# Altium footprint library TIDA-01576_ADS8686S_ISO_Interface.PcbLib: 67 footprints (part 3 of 5)
Each footprint in its own frame and in the unit in brackets; x right, y up, seen from the top. Pads: shape width x height; smd on the part's side, far side on the other; paste and mask are expansions set on the pad; w line width, h text height; cw(c..) or ccw(c..) is an arc to the next point about the centre after c.
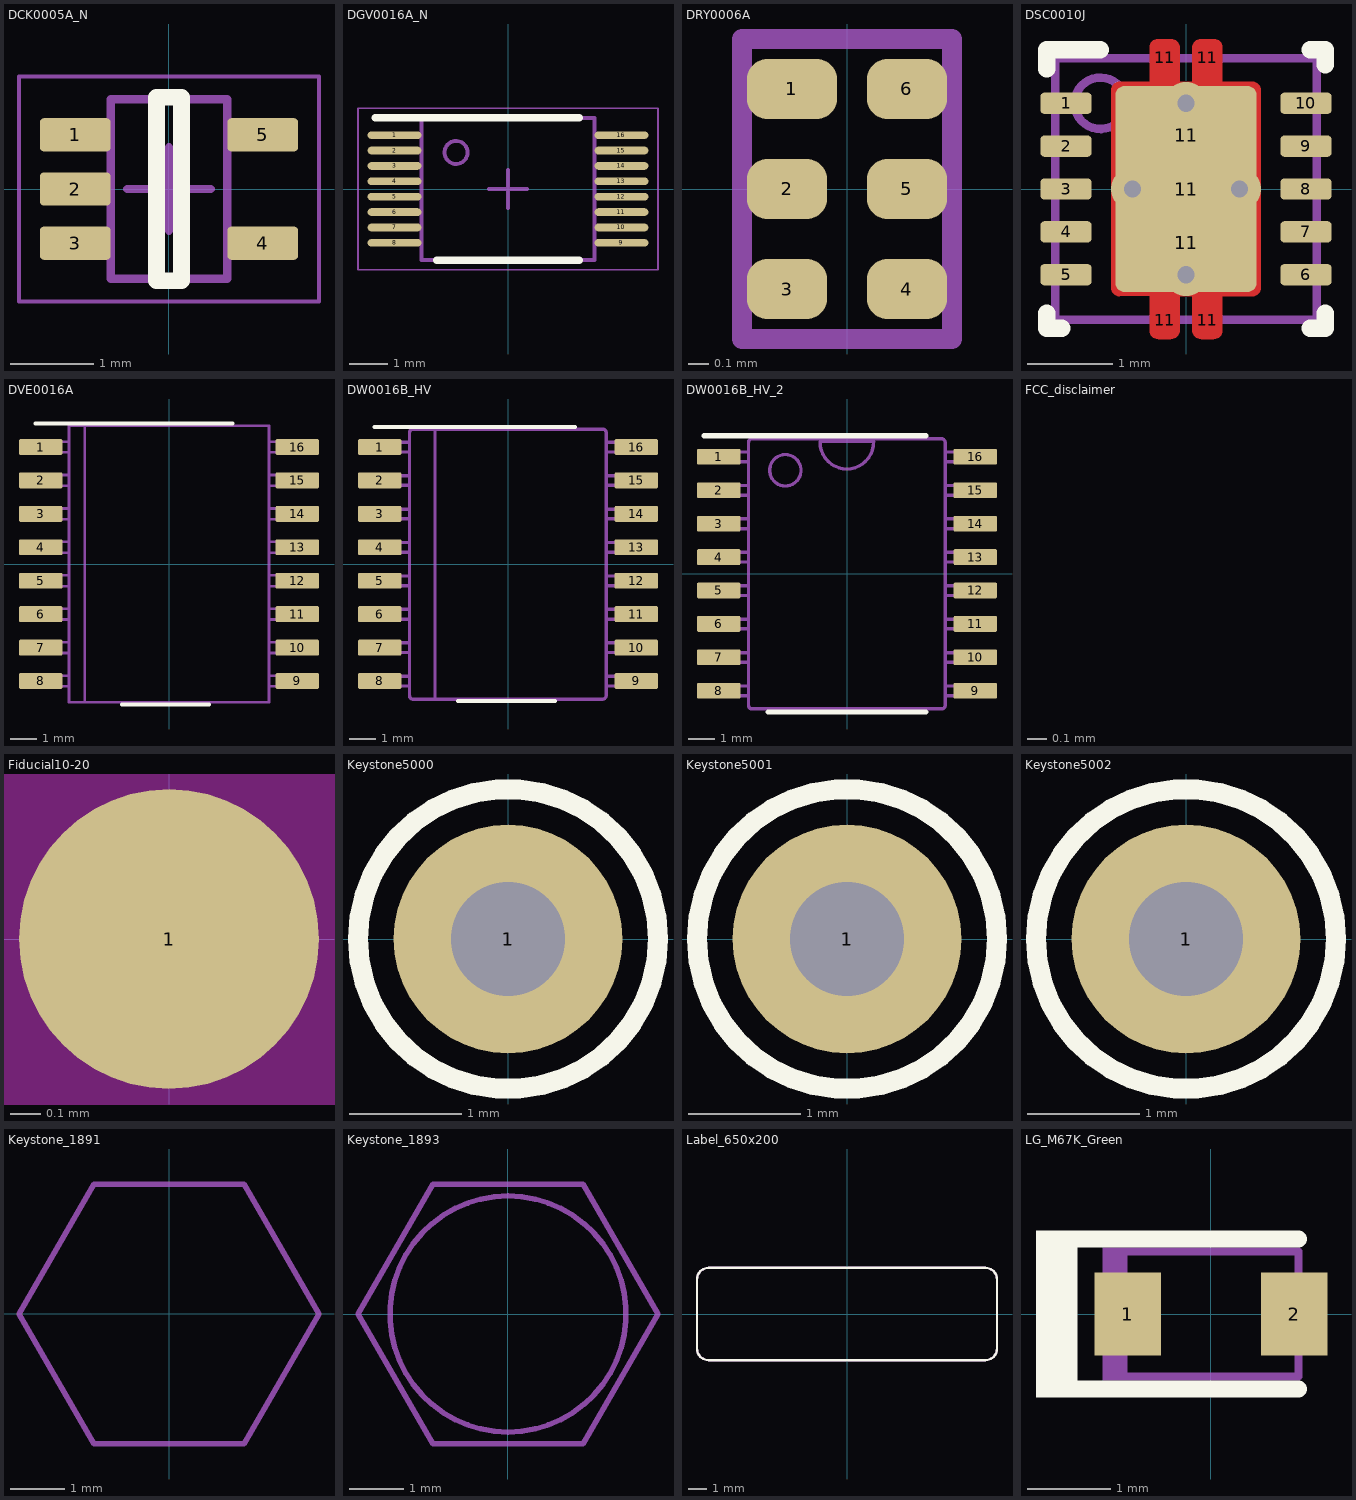
[diagram p2: the footprints below, top view; thin cyan lines are the x and y axes]

## DCK0005A_N [mm] "SOT353, 5-Leads, Body 2x1.3mm, Pitch 0.65mm, Lead Span 2.1mm, IPC Medium Density"
height 1.1
pads (5):
  rrect25% 0.85x0.4 smd: 1(-1.125,0.65) 2(-1.125,0) 3(-1.125,-0.65) 4(1.125,-0.65) 5(1.125,0.65)
Top Overlay:
  lines w0.2: -0.15,-1.1 -0.15,1.1 0.15,1.1 0.15,-1.1 -0.15,-1.1
Mechanical 5:
  lines w0.1: -0.7,-1.075 0.7,-1.075 0.7,1.075 -0.7,1.075 -0.7,-1.075
  lines w0.127: -0.865,0.762 -0.853,0.762 ; -0.711,-0.763 -0.853,-0.763 -0.865,-0.763 -0.959,-0.763 -1.143,-0.763 -1.143,-0.538 -0.959,-0.538 -0.865,-0.538 -0.853,-0.538 -0.711,-0.538 ; -0.711,-0.113 -0.853,-0.113 -0.865,-0.113 -0.959,-0.113 -1.143,-0.113 -1.143,0.112 -0.959,0.112 -0.865,0.112 -0.853,0.112 -0.711,0.112 ; -0.711,0.537 -0.853,0.537 -0.865,0.537 -0.959,0.537 -1.143,0.537 -1.143,0.762 -0.959,0.762 -0.711,0.762 ; 0.711,-0.763 0.847,-0.763 0.859,-0.763 0.953,-0.763 1.137,-0.763 1.137,-0.538 0.953,-0.538 0.859,-0.538 0.847,-0.538 0.711,-0.538 ; 0.711,0.537 0.847,0.537 0.859,0.537 0.953,0.537 1.137,0.537 1.137,0.762 0.953,0.762 0.859,0.762 0.847,0.762 0.711,0.762
  text ".Designator" at -0.254,0.914 h0.51
Mechanical 15:
  lines w0.05: -1.8,-1.35 1.8,-1.35 1.8,1.35 -1.8,1.35 -1.8,-1.35
  lines w0.1: -0.5,0 0.5,0 ; 0,-0.5 0,0.5
3D body "DCK0005A.stp": height 0.95, standoff 0, extent -1.14,-1 1.14,1

## DGV0016A_N [mm] "TSSOP, 16-Leads, Body 3.6x4.4mm, Pitch 0.4mm, IPC Medium Density"
height 1.2
pads (16):
  oval 1.4x0.2 smd: 1(-2.95,1.4) 2(-2.95,1) 3(-2.95,0.6) 4(-2.95,0.2) 5(-2.95,-0.2) 6(-2.95,-0.6) 7(-2.95,-1) 8(-2.95,-1.4) 9(2.95,-1.4) 10(2.95,-1) 11(2.95,-0.6) 12(2.95,-0.2) 13(2.95,0.2) 14(2.95,0.6) 15(2.95,1) 16(2.95,1.4)
Top Overlay:
  lines w0.2: -3.45,1.85 1.85,1.85 ; -1.85,-1.85 1.85,-1.85
Mechanical 5:
  circle w0.1: c-1.35,0.95 r0.3
  lines w0.1: -2.25,-1.85 -2.25,1.85 2.25,1.85 2.25,-1.85 -2.25,-1.85
  text ".Designator" at -1.8,-0.8 h1.02
Mechanical 15:
  lines w0.05: -3.9,-2.1 -3.9,2.1 3.9,2.1 3.9,-2.1 -3.9,-2.1
  lines w0.1: -0.5,0 0.5,0 ; 0,-0.5 0,0.5
3D body "DGV0016A.stp": height 1.2, standoff 0, extent -3.209,-1.8 3.209,1.8

## DRY0006A [mm] "USON-6"
height 0.6
pads (6):
  rrect67% 0.45x0.3 smd paste-0.05 mask-0.05: 1(-0.275,0.5)
  rrect67% 0.4x0.3 smd paste-0.05 mask-0.05: 2(-0.3,0) 3(-0.3,-0.5) 4(0.3,-0.5) 5(0.3,0) 6(0.3,0.5)
Mechanical 5:
  circle w0.05: c-0.325,0.5 r0.1
  lines w0.1: -0.525,-0.75 -0.525,0.75 0.525,0.75 0.525,-0.75 -0.525,-0.75
  text ".Designator" at -0.075,0.575 h0.3
3D body "DRY0006A.stp": height 0.58, standoff 0, extent -0.5,-0.725 0.5,0.725

## DSC0010J [mm] "SON, 10-Leads, Body 3x3mm, Pitch 0.5mm, Thermal Pad 2.4x1.65mm, TI Recommended"
height 0.8
pads (17):
  rrect40% 0.6x0.25 smd: 1(-1.4,1) 2(-1.4,0.5) 3(-1.4,0) 4(-1.4,-0.5) 5(-1.4,-1) 6(1.4,-1) 7(1.4,-0.5) 8(1.4,0) 9(1.4,0.5) 10(1.4,1)
  rrect50% 0.25x0.34 on Top Paste: 11(-0.25,-1.53) 11(-0.25,1.53) 11(0.25,-1.53) 11(0.25,1.53)
  rrect50% 1.5x1.06 on Top Paste: 11(0,-0.63) 11(0,0.63)
  rrect12% 1.65x2.4 smd paste-1 mask-2: 11(0,0)
via 0.625,0 diameter 0.5 hole 0.2
via -0.625,0 diameter 0.5 hole 0.2
via 0,1 diameter 0.5 hole 0.2
via 0,-1 diameter 0.5 hole 0.2
Top Layer:
  region: -0.775,-1.25 -0.425,-1.25 -0.425,-1.65 -0.425,-1.67 -0.41,-1.707 -0.382,-1.735 -0.345,-1.75 -0.325,-1.75 -0.175,-1.75 -0.155,-1.75 -0.118,-1.735 -0.09,-1.707 -0.075,-1.67 -0.075,-1.65 -0.075,-1.25 0.075,-1.25 0.075,-1.65 0.075,-1.67 0.09,-1.707 0.118,-1.735 0.155,-1.75 0.175,-1.75 0.325,-1.75 0.345,-1.75 0.382,-1.735 0.41,-1.707 0.425,-1.67 0.425,-1.65 0.425,-1.25 0.775,-1.25 0.795,-1.25 0.832,-1.235 0.86,-1.207 0.875,-1.17 0.875,-1.15 0.875,1.15 0.875,1.17 0.86,1.207 0.832,1.235 0.795,1.25 0.775,1.25 0.425,1.25 0.425,1.65 0.425,1.67 0.41,1.707 0.382,1.735 0.345,1.75 0.325,1.75 0.175,1.75 0.155,1.75 0.118,1.735 0.09,1.707 0.075,1.67 0.075,1.65 0.075,1.25 -0.075,1.25 -0.075,1.65 -0.075,1.67 -0.09,1.707 -0.118,1.735 -0.155,1.75 -0.175,1.75 -0.325,1.75 -0.345,1.75 -0.382,1.735 -0.41,1.707 -0.425,1.67 -0.425,1.65 -0.425,1.25 -0.775,1.25 -0.795,1.25 -0.832,1.235 -0.86,1.207 -0.875,1.17 -0.875,1.15 -0.875,-1.15 -0.875,-1.17 -0.86,-1.207 -0.832,-1.235 -0.795,-1.25
Top Overlay:
  lines w0.2: -1.625,-1.45 -1.625,-1.625 -1.45,-1.625 ; -1.625,1.4 -1.625,1.625 -1,1.625 ; 1.45,-1.625 1.625,-1.625 1.625,-1.45 ; 1.45,1.625 1.625,1.625 1.625,1.45
Mechanical 5:
  circle w0.1: c-1,1 r0.3
  lines w0.1: -1.525,-1.525 1.525,-1.525 1.525,1.525 -1.525,1.525 -1.525,-1.525
  text ".Designator" at -3.936,-0.681 h0.71
3D body "DSC0010J.stp": height 0.81, standoff 0.01, extent -1.5,-1.5 1.5,1.5

## DVE0016A [mm] "SO-MOD-16"
height 2.65
pads (16):
  rrect17% 1.65x0.6 smd: 1(-4.875,4.445) 2(-4.875,3.175) 3(-4.875,1.905) 4(-4.875,0.635) 5(-4.875,-0.635) 6(-4.875,-1.905) 7(-4.875,-3.175) 8(-4.875,-4.445) 9(4.875,-4.445) 10(4.875,-3.175) 11(4.875,-1.905) 12(4.875,-0.635) 13(4.875,0.635) 14(4.875,1.905) 15(4.875,3.175) 16(4.875,4.445)
Top Overlay:
  lines w0.152: -5.08,5.334 2.413,5.334 ; -1.778,-5.334 1.524,-5.334
Mechanical 5:
  lines w0.1: -3.8,-4.65 -5.3,-4.65 -5.3,-4.24 -3.8,-4.24 ; -3.8,-3.38 -5.3,-3.38 -5.3,-2.97 -3.8,-2.97 ; -3.8,-2.11 -5.3,-2.11 -5.3,-1.7 -3.8,-1.7 ; -3.8,-0.84 -5.3,-0.84 -5.3,-0.43 -3.8,-0.43 ; -3.8,0.43 -5.3,0.43 -5.3,0.84 -3.8,0.84 ; -3.8,1.7 -5.3,1.7 -5.3,2.11 -3.8,2.11 ; -3.8,2.97 -5.3,2.97 -5.3,3.38 -3.8,3.38 ; -3.8,4.24 -5.3,4.24 -5.3,4.65 -3.8,4.65 ; -3.2,-5.25 -3.2,5.25 ; 3.8,-4.65 5.3,-4.65 5.3,-4.24 3.8,-4.24 ; 3.8,-3.38 5.3,-3.38 5.3,-2.97 3.8,-2.97 ; 3.8,-2.11 5.3,-2.11 5.3,-1.7 3.8,-1.7 ; 3.8,-0.84 5.3,-0.84 5.3,-0.43 3.8,-0.43 ; 3.8,0.43 5.3,0.43 5.3,0.84 3.8,0.84 ; 3.8,1.7 5.3,1.7 5.3,2.11 3.8,2.11 ; 3.8,2.97 5.3,2.97 5.3,3.38 3.8,3.38 ; 3.8,4.24 5.3,4.24 5.3,4.65 3.8,4.65 ; -3.8,-5.25 3.8,-5.25 3.8,5.25 -3.8,5.25 -3.8,-5.25
  text ".Designator" at -0.83,5.231 h1.02
3D body "DVE0016A.stp": height 2.59, standoff 0, extent -5.167,-5.15 5.168,5.15

## DW0016B_HV [mm] "SOIC-16, HV/isolation option"
height 2.65
pads (16):
  rrect17% 1.65x0.6 smd: 1(-4.875,4.445) 2(-4.875,3.175) 3(-4.875,1.905) 4(-4.875,0.635) 5(-4.875,-0.635) 6(-4.875,-1.905) 7(-4.875,-3.175) 8(-4.875,-4.445) 9(4.875,-4.445) 10(4.875,-3.175) 11(4.875,-1.905) 12(4.875,-0.635) 13(4.875,0.635) 14(4.875,1.905) 15(4.875,3.175) 16(4.875,4.445)
Top Overlay:
  lines w0.152: -5.08,5.207 2.54,5.207 ; -1.905,-5.207 1.778,-5.207
Mechanical 5:
  lines w0.1: -2.775,-5.135 -2.775,5.127
  lines w0.127: -3.74,-4.633 -5.15,-4.633 -5.15,-4.265 -3.74,-4.265 ; -3.74,-3.363 -5.15,-3.363 -5.15,-2.995 -3.74,-2.995 ; -3.74,-2.093 -5.15,-2.093 -5.15,-1.725 -3.74,-1.725 ; -3.74,-0.823 -5.15,-0.823 -5.15,-0.455 -3.74,-0.455 ; -3.74,0.447 -5.15,0.447 -5.15,0.815 -3.74,0.815 ; -3.74,1.717 -5.15,1.717 -5.15,2.085 -3.74,2.085 ; -3.74,2.987 -5.15,2.987 -5.15,3.355 -3.74,3.355 ; -3.74,4.257 -5.15,4.257 -5.15,4.625 -3.74,4.625 ; 3.74,-4.633 5.15,-4.633 5.15,-4.265 3.74,-4.265 ; 3.74,-3.363 5.15,-3.363 5.15,-2.995 3.74,-2.995 ; 3.74,-2.093 5.15,-2.093 5.15,-1.725 3.74,-1.725 ; 3.74,-0.823 5.15,-0.823 5.15,-0.455 3.74,-0.455 ; 3.74,0.447 5.15,0.447 5.15,0.815 3.74,0.815 ; 3.74,1.717 5.15,1.717 5.15,2.085 3.74,2.085 ; 3.74,2.987 5.15,2.987 5.15,3.355 3.74,3.355 ; 3.74,4.257 5.15,4.257 5.15,4.625 3.74,4.625 ; -3.74,-5.008 ccw(c-3.613,-5.008) -3.614,-5.135 3.601,-5.135 ccw(c3.6,-5.008) 3.727,-5.008 3.727,5 ccw(c3.6,5) 3.601,5.127 -3.614,5.127 ccw(c-3.613,5) -3.74,5 -3.74,-5.008
  text ".Designator" at -0.425,1.85 h1.02
3D body "DW0016B.stp": height 2.59, standoff 0, extent -5.167,-5.15 5.168,5.15

## DW0016B_HV_2 [mm]
pads (16):
  rrect17% 1.65x0.6 smd: 1(-4.875,4.445) 2(-4.875,3.175) 3(-4.875,1.905) 4(-4.875,0.635) 5(-4.875,-0.635) 6(-4.875,-1.905) 7(-4.875,-3.175) 8(-4.875,-4.445) 9(4.875,-4.445) 10(4.875,-3.175) 11(4.875,-1.905) 12(4.875,-0.635) 13(4.875,0.635) 14(4.875,1.905) 15(4.875,3.175) 16(4.875,4.445)
Top Overlay:
  lines w0.2: -5.425,5.25 3,5.25 ; -3,-5.25 3,-5.25
Mechanical 5:
  drawing of 193 lines, arcs and shapes, not listed
  text ".Designator" at -1.854,-0.508 h1.02
3D body "DW0016AakaM16B.stp": height 2.5, standoff -0.04, extent -5.144,-5.131 5.143,5.131

## FCC_disclaimer [mm]
Top Overlay:
  text "For evaluation only; not FCC approved for resale." at -22.938,-8.532 h1.52

## Fiducial10-20 [mm]
pads (1):
  round 1 smd mask+0.5: 1(0,0)
Top Layer keep-out:
  circle w1.178: c0,0 r0.5

## Keystone5000 [mil] "For Keystone 500x miniature loop terminals"
height 181.1
pads (1):
  round 80 hole 40: 1(0,0)
Top Overlay:
  circle w7: c0,0 r52.5
Mechanical 5:
  circle w3.94: c0,0 r52.5
  text ".Designator" at -92.97,-15 h18
3D body "Keystone_5000.stp": height 181.97, standoff -118.11, extent -49,-49 49.04,49.24

## Keystone5001 [mil] "For Keystone 500x miniature loop terminals"
height 181.1
pads (1):
  round 80 hole 40: 1(0,0)
Top Overlay:
  circle w7: c0,0 r52.5
Mechanical 5:
  circle w3.94: c0,0 r52.5
  text ".Designator" at 15,-92.97 h18
3D body "Keystone_5001.stp": height 181.97, standoff -118.11, extent -49,-49 49.04,49.24

## Keystone5002 [mil] "For Keystone 500x miniature loop terminals"
height 181.1
pads (1):
  round 80 hole 40: 1(0,0)
Top Overlay:
  circle w7: c0,0 r52.5
Mechanical 5:
  circle w3.94: c0,0 r52.5
  text ".Designator" at 15,-92.97 h18
3D body "Keystone_5002.stp": height 181.97, standoff -118.11, extent -49,-49 49.04,49.23

## Keystone_1891 [mm] "3/16 Hex Female Standoff"
height 6.35
Mechanical 5:
  lines w0.1: -2.742,0 -1.371,-2.375 0,-2.375 1.371,-2.375 2.742,0 1.371,2.375 0,2.375 -1.371,2.375 -2.742,0
  text ".Designator" at -1.9,-0.4 h1.02
3D body "keystone-PN1891.stp": height 6.22, standoff -0.13, extent -2.742,-2.375 2.742,2.375

## Keystone_1893 [mm] "HEX STANDOFF 4-40 ALUMINUM 1/2\""
height 12.7
Mechanical 5:
  lines w0.1: -2.741,0.005 -1.37,-2.37 0.001,-2.37 1.373,-2.37 2.744,0.005 1.373,2.38 0.001,2.38 -1.37,2.38 -2.741,0.005 ; 0.001,-2.154 cw(c0.001,0.005) 0.001,2.164 cw(c0.001,0.005) 0.001,-2.154
  text ".Designator" at -1.85,-0.475 h1
3D body "Keystone_1893.stp": height 12.7, standoff 0, extent -2.742,-2.375 2.742,2.375

## Label_650x200 [mm] "Thermal Transfer Label"
height 0.025
Top Overlay:
  lines w0.127: -8.255,-1.905 ccw(c-7.62,-1.905) -7.62,-2.54 7.62,-2.54 ccw(c7.62,-1.905) 8.255,-1.905 8.255,1.905 ccw(c7.62,1.905) 7.62,2.54 -7.62,2.54 ccw(c-7.62,1.905) -8.255,1.905 -8.255,-1.905
Mechanical 5:
  lines w0.127: -8.255,-1.905 ccw(c-7.62,-1.905) -7.62,-2.54 7.62,-2.54 ccw(c7.62,-1.905) 8.255,-1.905 8.255,1.905 ccw(c7.62,1.905) 7.62,2.54 -7.62,2.54 ccw(c-7.62,1.905) -8.255,1.905 -8.255,-1.905
  text ".Designator" at -1.524,-0.508 h1.02
3D body: height 0.03, standoff 0, extent -8.256,-2.541 8.256,2.541

## LG_M67K_Green [mm] "SMD, 2-Leads, Body 2x1.4mm, Pitch 2mm"
height 1.4
pads (2):
  rect 0.8x1 smd mask+0: 1(-1,0) 2(1,0)
Top Overlay:
  rectangle: -2.1,-1 -1.6,1
  lines w0.2: -2,-0.9 1.05,-0.9 ; -2,0.9 1.05,0.9
Mechanical 5:
  rectangle: -1.3,-0.8 -1.05,0.8
  lines w0.1: -1.05,-0.75 1.05,-0.75 1.05,0.75 -1.05,0.75 -1.05,-0.75
  text ".Designator" at -0.9,-0.3 h0.4
3D body: height 1.4, standoff 0, extent -1.049,-0.749 1.049,0.749
3D body: height 0.9, standoff 0.6, extent -0.799,-0.149 -0.6,0.15